# Altium footprint library 2020-03-28_20-59-39.PcbLib: 3 footprints
Each footprint in its own frame and in the unit in brackets; x right, y up, seen from the top. Pads: shape width x height; smd on the part's side, far side on the other; paste and mask are expansions set on the pad; w line width, h text height; cw(c..) or ccw(c..) is an arc to the next point about the centre after c.
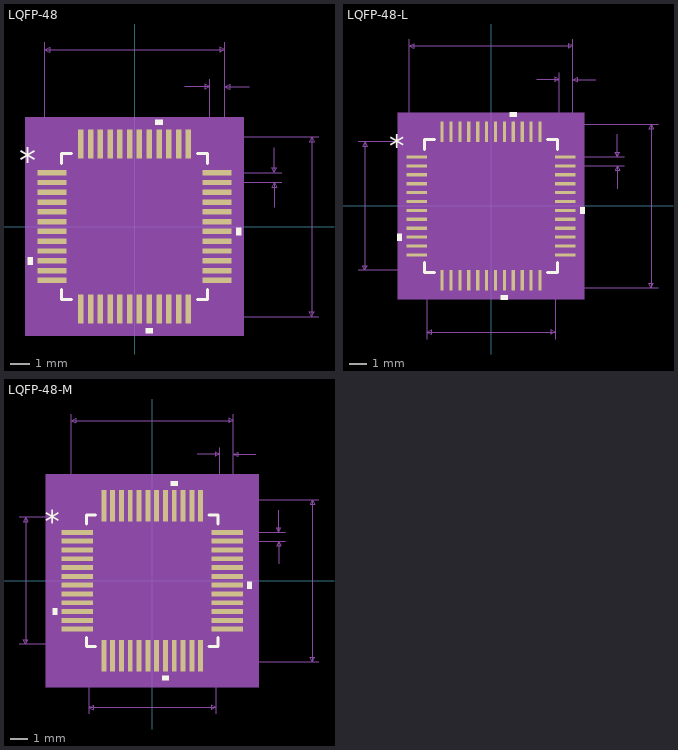
[diagram p0: the footprints below, top view; thin cyan lines are the x and y axes]

## LQFP-48 [mil]
pads (48):
  rect 58x11 smd: 1(-166,108.27) 2(-166,88.58) 3(-166,68.9) 4(-166,49.21) 5(-166,29.53) 6(-166,9.84) 7(-166,-9.84) 8(-166,-29.53) 9(-166,-49.21) 10(-166,-68.9) 11(-166,-88.58) 12(-166,-108.27) 25(166,-108.27) 26(166,-88.58) 27(166,-68.9) 28(166,-49.21) 29(166,-29.53) 30(166,-9.84) 31(166,9.84) 32(166,29.53) 33(166,49.21) 34(166,68.9) 35(166,88.58) 36(166,108.27)
  rect 11x58 smd: 13(-108.27,-166) 14(-88.58,-166) 15(-68.9,-166) 16(-49.21,-166) 17(-29.53,-166) 18(-9.84,-166) 19(9.84,-166) 20(29.53,-166) 21(49.21,-166) 22(68.9,-166) 23(88.58,-166) 24(108.27,-166) 37(108.27,166) 38(88.58,166) 39(68.9,166) 40(49.21,166) 41(29.53,166) 42(9.84,166) 43(-9.84,166) 44(-29.53,166) 45(-49.21,166) 46(-68.9,166) 47(-88.58,166) 48(-108.27,166)
Top Overlay:
  region: -205,-61.4 -215,-61.4 -215,-76.4 -205,-76.4
  region: 37.03,-205 22.03,-205 22.03,-215 37.03,-215
  region: 205,-2.34 215,-2.34 215,-17.34 205,-17.34
  region: 56.71,205 41.71,205 41.71,215 56.71,215
  lines w6: -147,-126.87 -147,-147 -126.87,-147 ; -147,126.87 -147,147 -126.87,147 ; 126.87,-147 147,-147 147,-126.87 ; 126.87,147 147,147 147,126.87
  text "*" at -232.5,108.11 h50
Mechanical 5:
  region: 220,-220 -220,-220 -220,220 220,220
Mechanical 7:
  lines w1: -181,108.27 -181,371 ; 101,281 151,281 ; 108.27,-181 371,-181 ; 108.27,181 371,181 ; 151,108.27 151,296 ; 166,88.58 296,88.58 ; 166,108.27 296,108.27 ; 181,296 181,108.27 181,371 ; 231,281 181,281 ; 281,38.58 281,88.58 ; 281,158.27 281,108.27 ; -181,356 181,356 ; -181,356 -171,361 -171,351 -181,356 ; 151,281 141,286 141,276 151,281 ; 181,281 191,286 191,276 181,281 ; 181,356 171,361 171,351 181,356 ; 281,88.58 276,78.58 286,78.58 281,88.58 ; 281,108.27 276,118.27 286,118.27 281,108.27 ; 356,-181 356,181 ; 356,-181 351,-171 361,-171 356,-181 ; 356,181 351,171 361,171 356,181
  text "Default Horiz Padstyle: RX11Y58D0T" at -425,-431 h50
  text "Default Vert Padstyle: RX11Y58D0T" at -412.5,-491 h50
  text "Alt 1 Padstyle: OX60Y90D30P" at -337.5,-671 h50
  text "Alt 2 Padstyle: OX90Y60D30P" at -337.5,-731 h50
  text "0.02in/0.5mm" at 301,85.93 h25
  text "0.03in/0.762mm" at 78.5,301 h25
  text "0.362in/9.195mm" at -93.75,376 h25
  text "0.362in/9.195mm" at 376,-12.5 h25
Mechanical 13:
  drawing of 201 lines, arcs and shapes, not listed
  text "*" at -139.5,93.11 h50
Mechanical 15:
  region: -128.27,-152 -152,-152 -152,-128.27 -206.5,-128.27 -206.5,128.27 -152,128.27 -152,152 -128.27,152 -128.27,206.5 128.27,206.5 128.27,152 152,152 152,128.27 206.5,128.27 206.5,-128.27 152,-128.27 152,-152 128.27,-152 128.27,-206.5 -128.27,-206.5
  lines w6: -206.5,-128.27 -152,-128.27 -152,-152 -128.27,-152 -128.27,-206.5 128.27,-206.5 128.27,-152 152,-152 152,-128.27 206.5,-128.27 206.5,128.27 152,128.27 152,152 128.27,152 128.27,206.5 -128.27,206.5 -128.27,152 -152,152 -152,128.27 -206.5,128.27 -206.5,-128.27
3D body: height 10, standoff 0, extent 0,0 10,10

## LQFP-48-L [mil]
pads (48):
  rect 46x7 smd paste+0 mask+0: 1(-164,108.27) 2(-164,88.58) 3(-164,68.9) 4(-164,49.21) 5(-164,29.53) 6(-164,9.84) 7(-164,-9.84) 8(-164,-29.53) 9(-164,-49.21) 10(-164,-68.9) 11(-164,-88.58) 12(-164,-108.27) 25(164,-108.27) 26(164,-88.58) 27(164,-68.9) 28(164,-49.21) 29(164,-29.53) 30(164,-9.84) 31(164,9.84) 32(164,29.53) 33(164,49.21) 34(164,68.9) 35(164,88.58) 36(164,108.27)
  rect 7x46 smd paste+0 mask+0: 13(-108.27,-164) 14(-88.58,-164) 15(-68.9,-164) 16(-49.21,-164) 17(-29.53,-164) 18(-9.84,-164) 19(9.84,-164) 20(29.53,-164) 21(49.21,-164) 22(68.9,-164) 23(88.58,-164) 24(108.27,-164) 37(108.27,164) 38(88.58,164) 39(68.9,164) 40(49.21,164) 41(29.53,164) 42(9.84,164) 43(-9.84,164) 44(-29.53,164) 45(-49.21,164) 46(-68.9,164) 47(-88.58,164) 48(-108.27,164)
Top Overlay:
  region: -197,-61.4 -207,-61.4 -207,-76.4 -197,-76.4
  region: 37.03,-197 22.03,-197 22.03,-207 37.03,-207
  region: 197,-2.34 207,-2.34 207,-17.34 197,-17.34
  region: 56.71,197 41.71,197 41.71,207 56.71,207
  lines w6: -147,-124.87 -147,-147 -124.87,-147 ; -147,124.87 -147,147 -124.87,147 ; 124.87,-147 147,-147 147,-124.87 ; 124.87,147 147,147 147,124.87
  text "*" at -224.5,108.11 h50
Mechanical 5:
  region: 206,-206 -206,-206 -206,206 206,206
Mechanical 7:
  lines w1: -294,-142 -108.27,-142 ; -294,142 -108.27,142 ; -181,108.27 -181,369 ; -142,-294 -142,-108.27 ; 101,279 151,279 ; 108.27,-181 369,-181 ; 108.27,181 369,181 ; 142,-294 142,-108.27 ; 151,108.27 151,294 ; 164,88.58 294,88.58 ; 164,108.27 294,108.27 ; 181,294 181,108.27 181,369 ; 231,279 181,279 ; 279,38.58 279,88.58 ; 279,158.27 279,108.27 ; -279,-142 -279,142 ; -279,-142 -284,-132 -274,-132 -279,-142 ; -279,142 -284,132 -274,132 -279,142 ; -181,354 181,354 ; -181,354 -171,359 -171,349 -181,354 ; -142,-279 142,-279 ; -142,-279 -132,-274 -132,-284 -142,-279 ; 142,-279 132,-274 132,-284 142,-279 ; 151,279 141,284 141,274 151,279 ; 181,279 191,284 191,274 181,279 ; 181,354 171,359 171,349 181,354 ; 279,88.58 274,78.58 284,78.58 279,88.58 ; 279,108.27 274,118.27 284,118.27 279,108.27 ; 354,-181 354,181 ; 354,-181 349,-171 359,-171 354,-181 ; 354,181 349,171 359,171 354,181
  text "Default Horiz Padstyle: RX7Y46D0T" at -412.5,-429 h50
  text "Default Vert Padstyle: RX7Y46D0T" at -400,-489 h50
  text "Alt 1 Padstyle: OX60Y90D30P" at -337.5,-669 h50
  text "Alt 2 Padstyle: OX90Y60D30P" at -337.5,-729 h50
  text "0.02in/0.5mm" at 299,85.93 h25
  text "0.03in/0.762mm" at 78.5,299 h25
  text "0.362in/9.195mm" at -93.75,374 h25
  text "0.284in/7.214mm" at -93.75,-324 h25
  text "0.284in/7.214mm" at -486.5,-12.5 h25
  text "0.362in/9.195mm" at 374,-12.5 h25
Mechanical 13:
  drawing of 201 lines, arcs and shapes, not listed
  text "*" at -139.5,93.11 h50
Mechanical 15:
  region: -115.77,-146 -146,-146 -146,-115.77 -191,-115.77 -191,115.77 -146,115.77 -146,146 -115.77,146 -115.77,191 115.77,191 115.77,146 146,146 146,115.77 191,115.77 191,-115.77 146,-115.77 146,-146 115.77,-146 115.77,-191 -115.77,-191
  lines w6: -191,-115.77 -146,-115.77 -146,-146 -115.77,-146 -115.77,-191 115.77,-191 115.77,-146 146,-146 146,-115.77 191,-115.77 191,115.77 146,115.77 146,146 115.77,146 115.77,191 -115.77,191 -115.77,146 -146,146 -146,115.77 -191,115.77 -191,-115.77
3D body: height 10, standoff 0, extent 0,0 10,10

## LQFP-48-M [mil]
pads (48):
  rect 70x11 smd paste+0 mask+0: 1(-168,108.27) 2(-168,88.58) 3(-168,68.9) 4(-168,49.21) 5(-168,29.53) 6(-168,9.84) 7(-168,-9.84) 8(-168,-29.53) 9(-168,-49.21) 10(-168,-68.9) 11(-168,-88.58) 12(-168,-108.27) 25(168,-108.27) 26(168,-88.58) 27(168,-68.9) 28(168,-49.21) 29(168,-29.53) 30(168,-9.84) 31(168,9.84) 32(168,29.53) 33(168,49.21) 34(168,68.9) 35(168,88.58) 36(168,108.27)
  rect 11x70 smd paste+0 mask+0: 13(-108.27,-168) 14(-88.58,-168) 15(-68.9,-168) 16(-49.21,-168) 17(-29.53,-168) 18(-9.84,-168) 19(9.84,-168) 20(29.53,-168) 21(49.21,-168) 22(68.9,-168) 23(88.58,-168) 24(108.27,-168) 37(108.27,168) 38(88.58,168) 39(68.9,168) 40(49.21,168) 41(29.53,168) 42(9.84,168) 43(-9.84,168) 44(-29.53,168) 45(-49.21,168) 46(-68.9,168) 47(-88.58,168) 48(-108.27,168)
Top Overlay:
  region: -213,-61.4 -223,-61.4 -223,-76.4 -213,-76.4
  region: 37.03,-213 22.03,-213 22.03,-223 37.03,-223
  region: 213,-2.34 223,-2.34 223,-17.34 213,-17.34
  region: 56.71,213 41.71,213 41.71,223 56.71,223
  lines w6: -147,-126.87 -147,-147 -126.87,-147 ; -147,126.87 -147,147 -126.87,147 ; 126.87,-147 147,-147 147,-126.87 ; 126.87,147 147,147 147,126.87
  text "*" at -240.5,108.11 h50
Mechanical 5:
  region: 238,-238 -238,-238 -238,238 238,238
Mechanical 7:
  lines w1: -298,-142 -108.27,-142 ; -298,142 -108.27,142 ; -181,108.27 -181,373 ; -142,-298 -142,-108.27 ; 101,283 151,283 ; 108.27,-181 373,-181 ; 108.27,181 373,181 ; 142,-298 142,-108.27 ; 151,108.27 151,298 ; 168,88.58 298,88.58 ; 168,108.27 298,108.27 ; 181,298 181,108.27 181,373 ; 231,283 181,283 ; 283,38.58 283,88.58 ; 283,158.27 283,108.27 ; -283,-142 -283,142 ; -283,-142 -288,-132 -278,-132 -283,-142 ; -283,142 -288,132 -278,132 -283,142 ; -181,358 181,358 ; -181,358 -171,363 -171,353 -181,358 ; -142,-283 142,-283 ; -142,-283 -132,-278 -132,-288 -142,-283 ; 142,-283 132,-278 132,-288 142,-283 ; 151,283 141,288 141,278 151,283 ; 181,283 191,288 191,278 181,283 ; 181,358 171,363 171,353 181,358 ; 283,88.58 278,78.58 288,78.58 283,88.58 ; 283,108.27 278,118.27 288,118.27 283,108.27 ; 358,-181 358,181 ; 358,-181 353,-171 363,-171 358,-181 ; 358,181 353,171 363,171 358,181
  text "Default Horiz Padstyle: RX11Y70D0T" at -425,-433 h50
  text "Default Vert Padstyle: RX11Y70D0T" at -412.5,-493 h50
  text "Alt 1 Padstyle: OX60Y90D30P" at -337.5,-673 h50
  text "Alt 2 Padstyle: OX90Y60D30P" at -337.5,-733 h50
  text "0.02in/0.5mm" at 303,85.93 h25
  text "0.03in/0.762mm" at 78.5,303 h25
  text "0.362in/9.195mm" at -93.75,378 h25
  text "0.284in/7.214mm" at -93.75,-328 h25
  text "0.284in/7.214mm" at -490.5,-12.5 h25
  text "0.362in/9.195mm" at 378,-12.5 h25
Mechanical 13:
  drawing of 201 lines, arcs and shapes, not listed
  text "*" at -139.5,93.11 h50
Mechanical 15:
  region: -133.77,-162 -162,-162 -162,-133.77 -223,-133.77 -223,133.77 -162,133.77 -162,162 -133.77,162 -133.77,223 133.77,223 133.77,162 162,162 162,133.77 223,133.77 223,-133.77 162,-133.77 162,-162 133.77,-162 133.77,-223 -133.77,-223
  lines w6: -223,-133.77 -162,-133.77 -162,-162 -133.77,-162 -133.77,-223 133.77,-223 133.77,-162 162,-162 162,-133.77 223,-133.77 223,133.77 162,133.77 162,162 133.77,162 133.77,223 -133.77,223 -133.77,162 -162,162 -162,133.77 -223,133.77 -223,-133.77
3D body: height 10, standoff 0, extent 0,0 10,10